# Altium footprint library pcbreath.PcbLib: 27 footprints (part 2 of 2)
Each footprint in its own frame and in the unit in brackets; x right, y up, seen from the top. Pads: shape width x height; smd on the part's side, far side on the other; paste and mask are expansions set on the pad; w line width, h text height; cw(c..) or ccw(c..) is an arc to the next point about the centre after c.
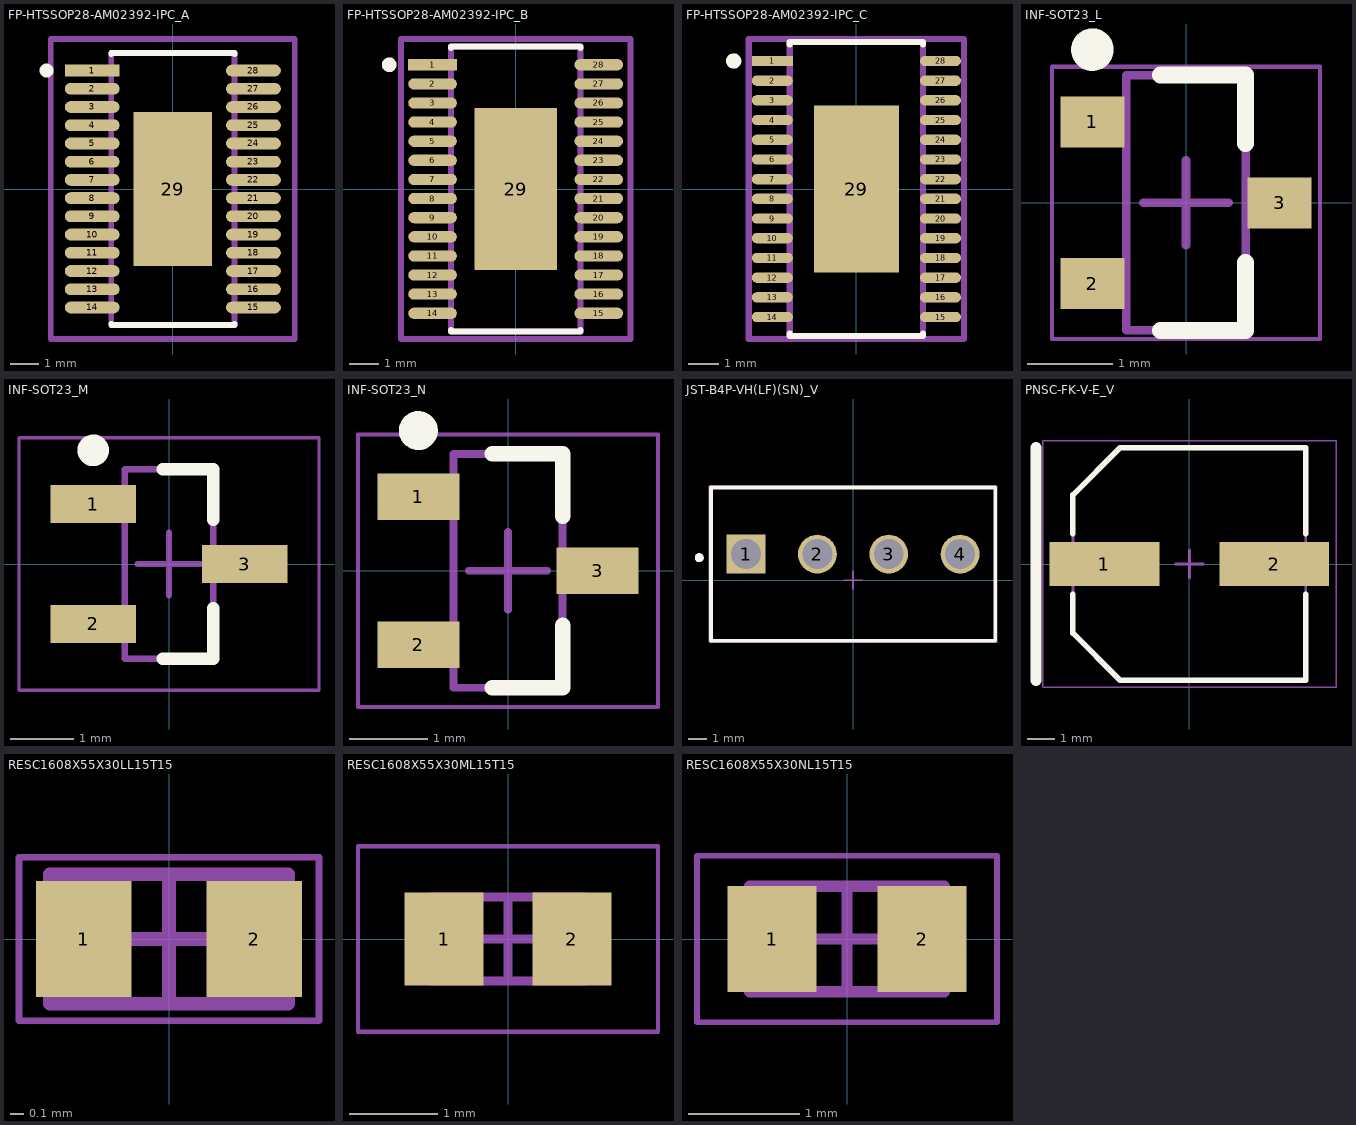
[diagram p1: the footprints below, top view; thin cyan lines are the x and y axes]

## FP-HTSSOP28-AM02392-IPC_A [mm]
pads (29):
  rect 1.955x0.421 smd paste+0 mask+0: 1(-2.875,4.225)
  rrect100% 1.955x0.421 smd paste+0 mask+0: 2(-2.875,3.575) 3(-2.875,2.925) 4(-2.875,2.275) 5(-2.875,1.625) 6(-2.875,0.975) 7(-2.875,0.325) 8(-2.875,-0.325) 9(-2.875,-0.975) 10(-2.875,-1.625) 11(-2.875,-2.275) 12(-2.875,-2.925) 13(-2.875,-3.575) 14(-2.875,-4.225) 15(2.875,-4.225) 16(2.875,-3.575) 17(2.875,-2.925) 18(2.875,-2.275) 19(2.875,-1.625) 20(2.875,-0.975) 21(2.875,-0.325) 22(2.875,0.325) 23(2.875,0.975) 24(2.875,1.625) 25(2.875,2.275) 26(2.875,2.925) 27(2.875,3.575) 28(2.875,4.225)
  rect 2.8x5.5 smd paste-1000 mask+0: 29(0,0)
Top Overlay:
  circle w0.25: c-4.5,4.225 r0.125
  lines w0.2: -2.2,-4.81 -2.2,-4.85 2.2,-4.85 2.2,-4.81 ; -2.2,4.81 -2.2,4.85 2.2,4.85 2.2,4.81
Top Paste:
  rectangle: -0.919,-2.269 0.919,-0.24
  rectangle: -0.919,0.24 0.919,2.269
Mechanical 5:
  lines w0.2: -4.353,-5.35 -4.353,5.35 4.353,5.35 4.353,-5.35 -4.353,-5.35
  text ".Designator" at 0,0.188 h1
Mechanical 13:
  lines w0.2: -2.2,-4.85 -2.2,4.85 2.2,4.85 2.2,-4.85 -2.2,-4.85
Mechanical 15:
  lines w0.2: -4.353,-5.35 -4.353,5.35 4.353,5.35 4.353,-5.35 -4.353,-5.35
Mechanical 16:
  lines w0.1: -0.5,0 0.5,0 ; 0,-0.5 0,0.5
3D body "IC_STMicroelectronics_L6470HTR_eec.STEP": height 0.25, standoff 0, extent -4.353,-5.35 4.353,5.35

## FP-HTSSOP28-AM02392-IPC_B [mm]
pads (29):
  rect 1.655x0.381 smd paste+0 mask+0: 1(-2.825,4.225)
  rrect100% 1.655x0.381 smd paste+0 mask+0: 2(-2.825,3.575) 3(-2.825,2.925) 4(-2.825,2.275) 5(-2.825,1.625) 6(-2.825,0.975) 7(-2.825,0.325) 8(-2.825,-0.325) 9(-2.825,-0.975) 10(-2.825,-1.625) 11(-2.825,-2.275) 12(-2.825,-2.925) 13(-2.825,-3.575) 14(-2.825,-4.225) 15(2.825,-4.225) 16(2.825,-3.575) 17(2.825,-2.925) 18(2.825,-2.275) 19(2.825,-1.625) 20(2.825,-0.975) 21(2.825,-0.325) 22(2.825,0.325) 23(2.825,0.975) 24(2.825,1.625) 25(2.825,2.275) 26(2.825,2.925) 27(2.825,3.575) 28(2.825,4.225)
  rect 2.8x5.5 smd paste-1000 mask+0: 29(0,0)
Top Overlay:
  circle w0.25: c-4.3,4.225 r0.125
  lines w0.2: -2.2,-4.79 -2.2,-4.85 2.2,-4.85 2.2,-4.79 ; -2.2,4.79 -2.2,4.85 2.2,4.85 2.2,4.79
Top Paste:
  rectangle: -1.375,0.15 1.375,2.725
  rectangle: -1.375,-2.725 1.375,-0.15
Mechanical 5:
  lines w0.2: -3.903,-5.1 3.903,-5.1 3.903,5.1 -3.903,5.1 -3.903,-5.1
  text ".Designator" at 0,0.188 h1
Mechanical 13:
  lines w0.2: -2.2,-4.85 2.2,-4.85 2.2,4.85 -2.2,4.85 -2.2,-4.85
Mechanical 15:
  lines w0.2: -3.903,-5.1 3.903,-5.1 3.903,5.1 -3.903,5.1 -3.903,-5.1
Mechanical 16:
  lines w0.1: -0.5,0 0.5,0 ; 0,-0.5 0,0.5
3D body "IC_STMicroelectronics_L6470HTR_eec.STEP": height 0.25, standoff 0, extent -3.903,-5.1 3.903,5.1

## FP-HTSSOP28-AM02392-IPC_C [mm]
pads (29):
  rect 1.355x0.341 smd paste+0 mask+0: 1(-2.775,4.225)
  rrect100% 1.355x0.341 smd paste+0 mask+0: 2(-2.775,3.575) 3(-2.775,2.925) 4(-2.775,2.275) 5(-2.775,1.625) 6(-2.775,0.975) 7(-2.775,0.325) 8(-2.775,-0.325) 9(-2.775,-0.975) 10(-2.775,-1.625) 11(-2.775,-2.275) 12(-2.775,-2.925) 13(-2.775,-3.575) 14(-2.775,-4.225) 15(2.775,-4.225) 16(2.775,-3.575) 17(2.775,-2.925) 18(2.775,-2.275) 19(2.775,-1.625) 20(2.775,-0.975) 21(2.775,-0.325) 22(2.775,0.325) 23(2.775,0.975) 24(2.775,1.625) 25(2.775,2.275) 26(2.775,2.925) 27(2.775,3.575) 28(2.775,4.225)
  rect 2.8x5.5 smd paste-1000 mask+0: 29(0,0)
Top Overlay:
  circle w0.25: c-4.05,4.225 r0.125
  lines w0.2: -2.2,-4.77 -2.2,-4.85 2.2,-4.85 2.2,-4.77 ; -2.2,4.77 -2.2,4.85 2.2,4.85 2.2,4.77
Top Paste:
  rectangle: -0.919,-2.269 0.919,-0.24
  rectangle: -0.919,0.24 0.919,2.269
Mechanical 5:
  lines w0.2: -3.553,-4.95 -3.553,4.95 3.553,4.95 3.553,-4.95 -3.553,-4.95
  text ".Designator" at 0,0.188 h1
Mechanical 13:
  lines w0.2: -2.2,-4.85 -2.2,4.85 2.2,4.85 2.2,-4.85 -2.2,-4.85
Mechanical 15:
  lines w0.2: -3.553,-4.95 -3.553,4.95 3.553,4.95 3.553,-4.95 -3.553,-4.95
Mechanical 16:
  lines w0.1: -0.5,0 0.5,0 ; 0,-0.5 0,0.5
3D body "IC_STMicroelectronics_L6470HTR_eec.STEP": height 0.25, standoff 0, extent -3.553,-4.95 3.553,4.95

## INF-SOT23_L [mm] "SOT23, 3-Leads, Body 2.9x1.3 mm, Pitch 0.95 mm, IPC High Density"
height 1.1
pads (3):
  rect 0.75x0.6 smd: 1(-1.1,0.95) 2(-1.1,-0.95) 3(1.1,0)
Top Overlay:
  circle w0.25: c-1.1,1.8 r0.125
  lines w0.2: -0.3,-1.5 0.7,-1.5 0.7,-0.7 ; -0.3,1.5 0.7,1.5 0.7,0.7
Mechanical 13:
  lines w0.1: -0.7,-1.5 0.7,-1.5 0.7,1.5 -0.7,1.5 -0.7,-1.5
Mechanical 15:
  lines w0.05: -1.575,-1.6 1.575,-1.6 1.575,1.6 -1.575,1.6 -1.575,-1.6
  lines w0.1: -0.5,0 0.5,0 ; 0,-0.5 0,0.5
3D body: height 1.1, standoff 0.1, extent -0.7,-1.5 0.7,1.5

## INF-SOT23_M [mm] "SOT23, 3-Leads, Body 2.9x1.3 mm, Pitch 0.95 mm, IPC Low Density"
height 1.1
pads (3):
  rect 1.35x0.6 smd: 1(-1.2,0.95) 2(-1.2,-0.95) 3(1.2,0)
Top Overlay:
  circle w0.25: c-1.2,1.8 r0.125
  lines w0.2: -0.1,-1.5 0.7,-1.5 0.7,-0.7 ; -0.1,1.5 0.7,1.5 0.7,0.7
Mechanical 13:
  lines w0.1: -0.7,-1.5 0.7,-1.5 0.7,1.5 -0.7,1.5 -0.7,-1.5
Mechanical 15:
  lines w0.05: -2.375,-2 2.375,-2 2.375,2 -2.375,2 -2.375,-2
  lines w0.1: -0.5,0 0.5,0 ; 0,-0.5 0,0.5
3D body: height 1.1, standoff 0.1, extent -0.7,-1.5 0.7,1.5

## INF-SOT23_N [mm] "SOT23, 3-Leads, Body 2.9x1.3 mm, Pitch 0.95 mm, IPC Medium Density"
height 1.1
pads (3):
  rect 1.05x0.6 smd: 1(-1.15,0.95) 2(-1.15,-0.95) 3(1.15,0)
Top Overlay:
  circle w0.25: c-1.15,1.8 r0.125
  lines w0.2: -0.2,-1.5 0.7,-1.5 0.7,-0.7 ; -0.2,1.5 0.7,1.5 0.7,0.7
Mechanical 13:
  lines w0.1: -0.7,-1.5 0.7,-1.5 0.7,1.5 -0.7,1.5 -0.7,-1.5
Mechanical 15:
  lines w0.05: -1.925,-1.75 1.925,-1.75 1.925,1.75 -1.925,1.75 -1.925,-1.75
  lines w0.1: -0.5,0 0.5,0 ; 0,-0.5 0,0.5
3D body: height 1.1, standoff 0.1, extent -0.7,-1.5 0.7,1.5

## JST-B4P-VH(LF)(SN)_V [mm] "CONN, 4-Leads, Body 8.5x15.78mm, Pitch 3.96mm"
height 10.9
pads (4):
  rect 2.15x2.15 hole 1.65: 1(-5.94,1.45)
  round 2.15 hole 1.65: 2(-1.98,1.45) 3(1.98,1.45) 4(5.94,1.45)
Top Overlay:
  circle w0.25: c-8.54,1.25 r0.125
  lines w0.2: -7.89,-3.35 -7.89,5.15 7.89,5.15 7.89,-3.35 -7.89,-3.35
Mechanical 13:
  lines w0.1: -7.89,-3.35 7.89,-3.35 7.89,5.15 -7.89,5.15 -7.89,-3.35
Mechanical 15:
  lines w0.05: -7.99,-3.45 7.99,-3.45 7.99,5.25 -7.99,5.25 -7.99,-3.45
  lines w0.1: -0.5,0 0.5,0 ; 0,-0.5 0,0.5
3D body "B4P-VH.STEP": height 10.9, standoff -3.7, extent -7.89,-3.35 7.89,5.15

## PNSC-FK-V-E_V [mm] "CAPAE, 2-Leads, Body 8.50x8.50mm"
height 6.5
pads (2):
  rect 4x1.6 smd: 1(-3.1,0) 2(3.1,0)
Top Overlay:
  lines w0.2: -4.25,-1.1 -4.25,-2.525 -2.525,-4.25 4.25,-4.25 4.25,-1.1 ; -4.25,1.1 -4.25,2.525 -2.525,4.25 4.25,4.25 4.25,1.1
  lines w0.4: -5.6,-4.25 -5.6,4.25
Mechanical 13:
  lines w0.1: -4.25,-2.525 -2.525,-4.25 4.25,-4.25 4.25,4.25 -2.525,4.25 -4.25,2.525 -4.25,-2.525
Mechanical 15:
  lines w0.05: -5.35,-4.5 -5.35,4.5 5.35,4.5 5.35,-4.5 -5.35,-4.5
  lines w0.1: -0.5,0 0.5,0 ; 0,-0.5 0,0.5
3D body "CAPAE9583X65L.step": height 6.5, standoff -1.5, extent -4.75,-4.25 4.75,4.25

## RESC1608X55X30LL15T15 [mm] "Chip Resistor, 2-Leads, Body 1.60x0.80mm, IPC High Density"
height 0.55
pads (2):
  rect 0.7x0.85 smd: 1(-0.625,0) 2(0.625,0)
Mechanical 13:
  lines w0.1: -0.875,-0.475 -0.875,0.475 0.875,0.475 0.875,-0.475 -0.875,-0.475
Mechanical 15:
  lines w0.05: -1.1,-0.6 -1.1,0.6 1.1,0.6 1.1,-0.6 -1.1,-0.6
  lines w0.1: -0.475,0 0.475,0 ; 0,-0.475 0,0.475
3D body: height 0.55, standoff 0, extent -0.575,-0.475 0.575,0.475
3D body: height 0.55, standoff 0, extent -0.875,-0.475 -0.575,0.475
3D body: height 0.55, standoff 0, extent 0.575,-0.475 0.875,0.475

## RESC1608X55X30ML15T15 [mm] "Chip Resistor, 2-Leads, Body 1.60x0.80mm, IPC Low Density"
height 0.55
pads (2):
  rect 0.9x1.05 smd: 1(-0.725,0) 2(0.725,0)
Mechanical 13:
  lines w0.1: -0.875,-0.475 -0.875,0.475 0.875,0.475 0.875,-0.475 -0.875,-0.475
Mechanical 15:
  lines w0.05: -1.7,-1.05 -1.7,1.05 1.7,1.05 1.7,-1.05 -1.7,-1.05
  lines w0.1: -0.475,0 0.475,0 ; 0,-0.475 0,0.475
3D body: height 0.55, standoff 0, extent -0.575,-0.475 0.575,0.475
3D body: height 0.55, standoff 0, extent -0.875,-0.475 -0.575,0.475
3D body: height 0.55, standoff 0, extent 0.575,-0.475 0.875,0.475

## RESC1608X55X30NL15T15 [mm] "Chip Resistor, 2-Leads, Body 1.60x0.80mm, IPC Medium Density"
height 0.55
pads (2):
  rect 0.8x0.95 smd: 1(-0.675,0) 2(0.675,0)
Mechanical 13:
  lines w0.1: -0.875,-0.475 -0.875,0.475 0.875,0.475 0.875,-0.475 -0.875,-0.475
Mechanical 15:
  lines w0.05: -1.35,-0.75 -1.35,0.75 1.35,0.75 1.35,-0.75 -1.35,-0.75
  lines w0.1: -0.475,0 0.475,0 ; 0,-0.475 0,0.475
3D body: height 0.55, standoff 0, extent -0.575,-0.475 0.575,0.475
3D body: height 0.55, standoff 0, extent -0.875,-0.475 -0.575,0.475
3D body: height 0.55, standoff 0, extent 0.575,-0.475 0.875,0.475